# Altium schematic symbol library Audio.SchLib: 1 symbol
Pins are listed as number, name and electrical type; pins without a type are passive.

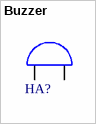
[diagram p0: symbol Buzzer]

## Buzzer
designator HA?  (value not drawn)
BUZZER, Piezo, Pitch 5mm (TDK)
footprint PS1240P02BT (Пьезоизлучатель)
pins: 1, 2